# Altium footprint library 8191.PcbLib: 1 footprints
Each footprint in its own frame and in the unit in brackets; x right, y up, seen from the top. Pads: shape width x height; smd on the part's side, far side on the other; paste and mask are expansions set on the pad; w line width, h text height; cw(c..) or ccw(c..) is an arc to the next point about the centre after c.
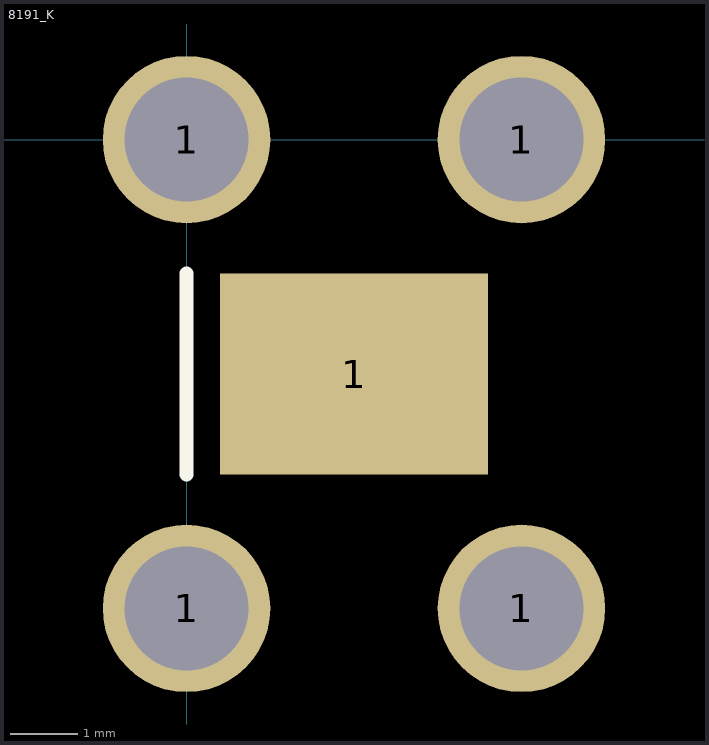
[diagram p0: the footprint, top view; thin cyan lines are the x and y axes]

## 8191_K [mm]
pads (5):
  round 2.5 hole 1.85: 1(0,-7) 1(0,0) 1(5,-7) 1(5,0)
  rect 4x3 smd: 1(2.5,-3.5)
Top Overlay:
  lines w0.203: 0,-5 0,-2